# EAGLE library part 1X10PIN_HEADER (library 1_spektrak)
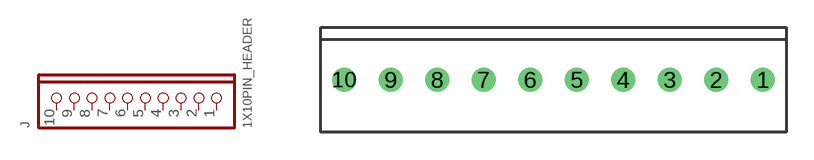
[diagram p22: symbol with the pads of 1X10PIN_HEADER; footprint 1X10PIN_HEADER]

Designator prefix J

## 1X10PIN_HEADER  [1X10PIN_HEADER]
1  10
2  9
3  8
4  7
5  6
6  5
7  4
8  3
9  2
10  1

## Footprint 1X10PIN_HEADER (pad centres in mm)
drill 0.8: 1 11.43,0; 2 8.89,0; 3 6.35,0; 4 3.81,0; 5 1.27,0; 6 -1.27,0; 7 -3.81,0; 8 -6.35,0; 9 -8.89,0; 10 -11.43,0